# EAGLE library part LED-3SEG (library mylib)
Vf@5mA: (R) = 1.9V (G) = 2.9V (B) = 2.8V
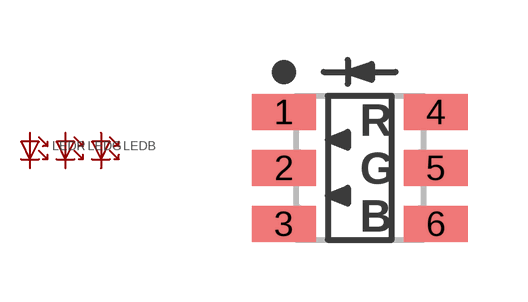
[diagram p108: symbol with the pads of LED-3SEG-SMD; footprint LED-3SEG-SMD]

Designator prefix LED; gates R=LED-1SEG-SINGLE G=LED-1SEG-SINGLE B=LED-1SEG-SINGLE

## LED-3SEG (MOUSER: 604-APF3236SEEZGQBDC)  [LED-3SEG-SMD]
1  R:K
2  G:K
3  B:K
4  R:A
5  G:A
6  B:A

## Footprint LED-3SEG-SMD (pad centres in mm)
http://www.mouser.jp/ProductDetail/Kingbright/APF3236SEEZGQBDC/?qs=sGAEpiMZZMvyj6n1w4pZD7Z93PX7SsfIR3vx1%2f43RqU%3d
smd 1.6 x 0.9: 1 -1.9,1.4; 2 -1.9,0; 3 -1.9,-1.4; 4 1.9,1.4; 5 1.9,0; 6 1.9,-1.4